# EAGLE library part AD1985 (library analog-devices)
AC ?97 SoundMAX® Codec Auto generated by make-symbol-device-package-bsdl.ulp Rev. 33 Source: http://www.analog.com/static/imported-files/data_sheets/AD1985.pdf
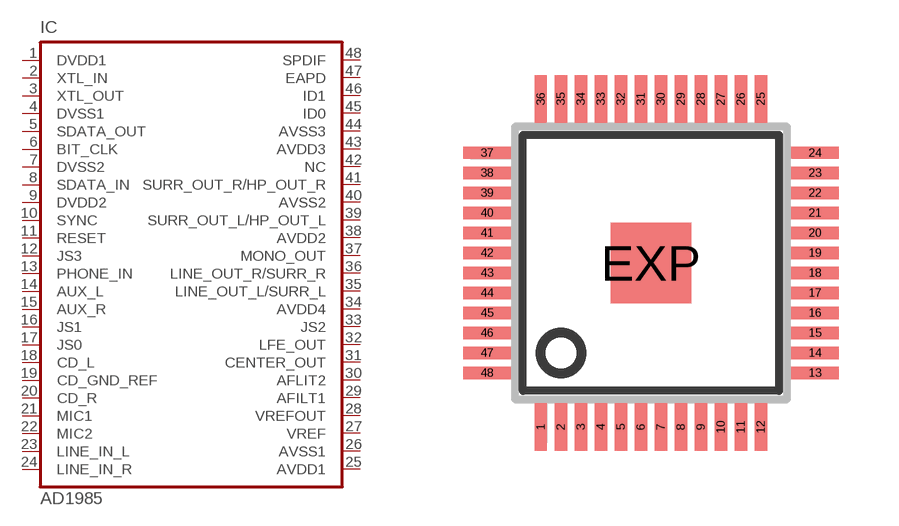
[diagram p70: symbol with the pads of QFP-7X7-48; footprint QFP-7X7-48]

Designator prefix IC

## AD1985 (OC_FARNELL: unknown; OC_NEWARK: unknown)  [QFP-7X7-48]
1  DVDD1  in
2  XTL_IN  in
3  XTL_OUT  out
4  DVSS1  in
5  SDATA_OUT  in
6  BIT_CLK  in
7  DVSS2  in
8  SDATA_IN  out
9  DVDD2  in
10  SYNC  in
11  RESET  in
12  JS3  in
13  PHONE_IN  in
14  AUX_L  in
15  AUX_R  in
16  JS1  in
17  JS0  in
18  CD_L  in
19  CD_GND_REF  in
20  CD_R  in
21  MIC1  in
22  MIC2  in
23  LINE_IN_L  in
24  LINE_IN_R  in
25  AVDD1  in
26  AVSS1  in
27  VREF  out
28  VREFOUT  out
29  AFILT1  out
30  AFLIT2  out
31  CENTER_OUT
32  LFE_OUT
33  JS2  in
34  AVDD4  in
35  LINE_OUT_L/SURR_L  out
36  LINE_OUT_R/SURR_R  out
37  MONO_OUT  out
38  AVDD2  in
39  SURR_OUT_L/HP_OUT_L  out
40  AVSS2  in
41  SURR_OUT_R/HP_OUT_R  out
42  NC  nc
43  AVDD3  in
44  AVSS3  in
45  ID0  in
46  ID1  in
47  EAPD  out
48  SPDIF  out

## Footprint QFP-7X7-48 (pad centres in mm)
TQFP48 7x7 Thin Plastic Quad Flat Package, Exposed Pad, TQFP/EP Source: www.analog.com/UploadedFiles/Data_Sheets/33830397585263AD9859_0.pdf
smd 0.3 x 1.2: 1 -2.75,-4.1; 2 -2.25,-4.1; 3 -1.75,-4.1; 4 -1.25,-4.1; 5 -0.75,-4.1; 6 -0.25,-4.1; 7 0.25,-4.1; 8 0.75,-4.1; 9 1.25,-4.1; 10 1.75,-4.1; 11 2.25,-4.1; 12 2.75,-4.1; 25 2.75,4.1; 26 2.25,4.1; 27 1.75,4.1; 28 1.25,4.1; 29 0.75,4.1; 30 0.25,4.1; 31 -0.25,4.1; 32 -0.75,4.1; 33 -1.25,4.1; 34 -1.75,4.1; 35 -2.25,4.1; 36 -2.75,4.1
smd 1.2 x 0.3: 13 4.1,-2.75; 14 4.1,-2.25; 15 4.1,-1.75; 16 4.1,-1.25; 17 4.1,-0.75; 18 4.1,-0.25; 19 4.1,0.25; 20 4.1,0.75; 21 4.1,1.25; 22 4.1,1.75; 23 4.1,2.25; 24 4.1,2.75; 37 -4.1,2.75; 38 -4.1,2.25; 39 -4.1,1.75; 40 -4.1,1.25; 41 -4.1,0.75; 42 -4.1,0.25; 43 -4.1,-0.25; 44 -4.1,-0.75; 45 -4.1,-1.25; 46 -4.1,-1.75; 47 -4.1,-2.25; 48 -4.1,-2.75
smd 2 x 2: EXP 0,0